# Altium footprint library 芯片.PcbLib: 193 footprints (part 12 of 13)
Each footprint in its own frame and in the unit in brackets; x right, y up, seen from the top. Pads: shape width x height; smd on the part's side, far side on the other; paste and mask are expansions set on the pad; w line width, h text height; cw(c..) or ccw(c..) is an arc to the next point about the centre after c.
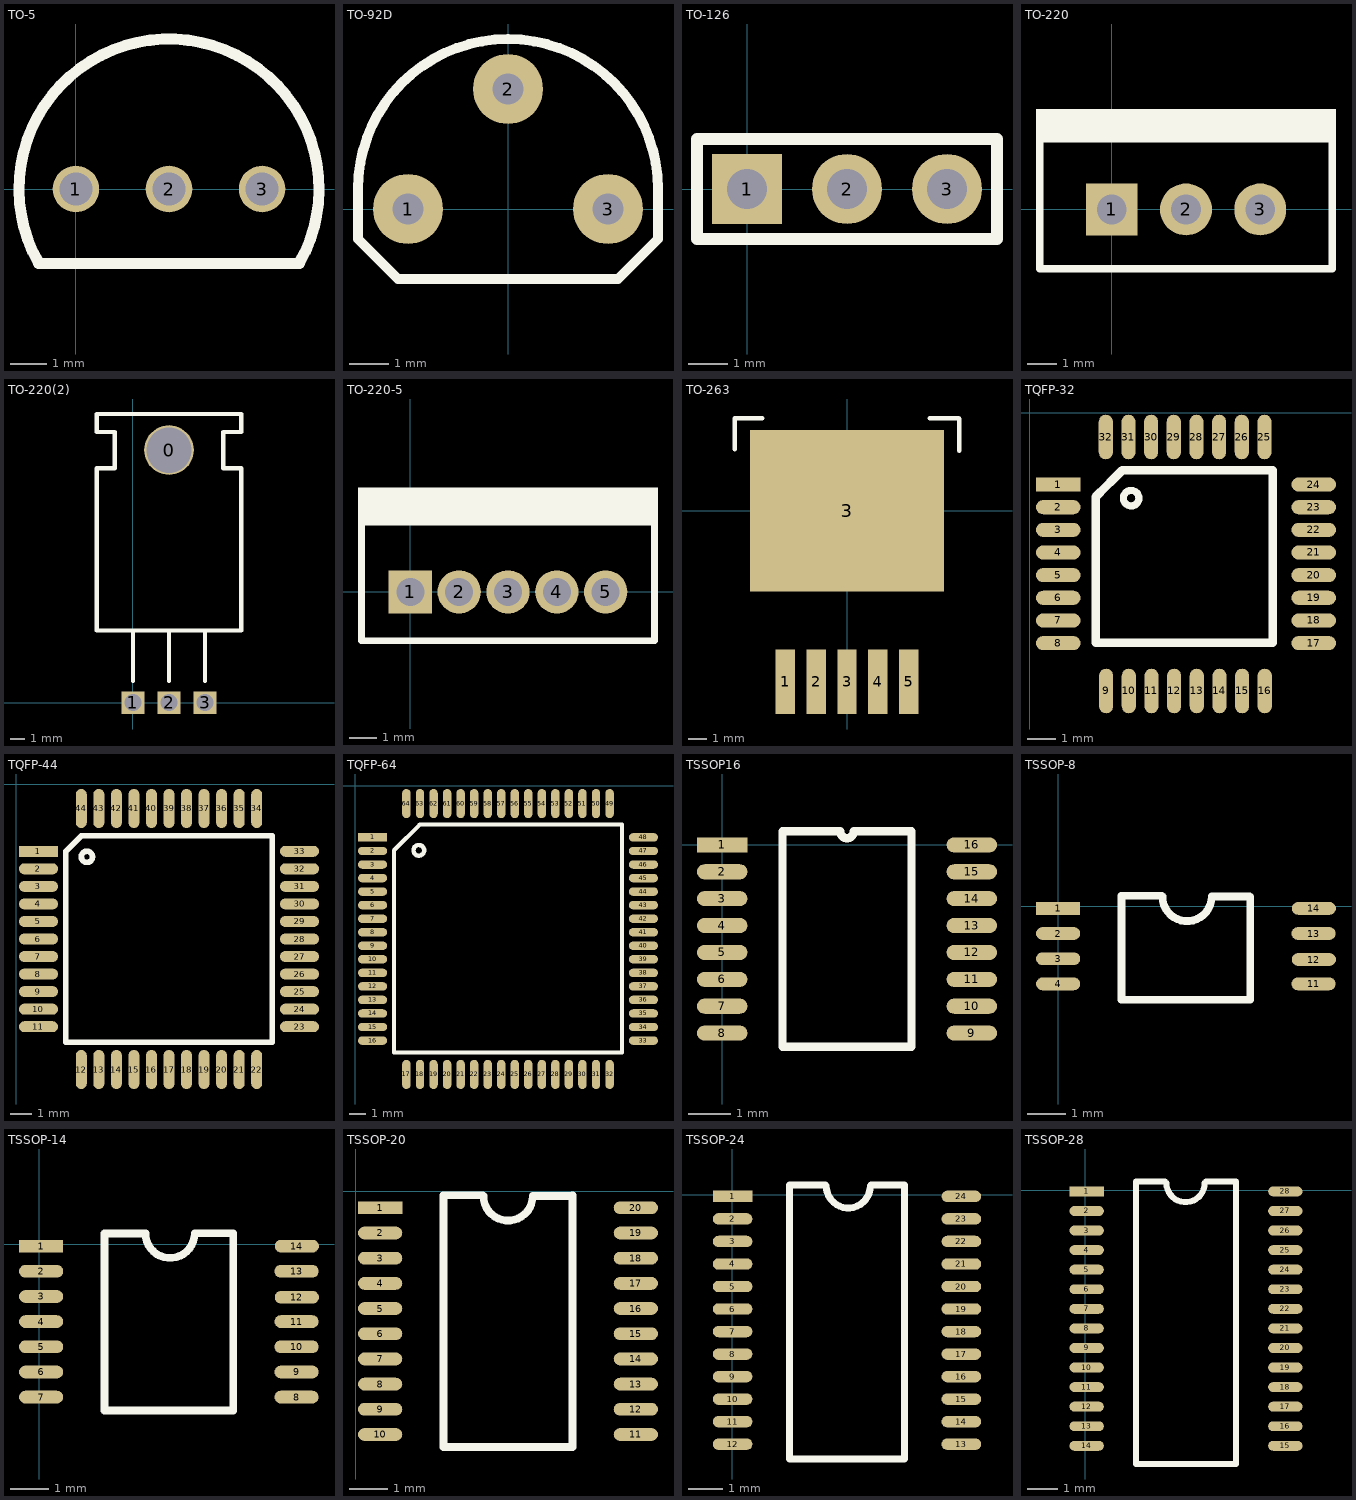
[diagram p11: the footprints below, top view; thin cyan lines are the x and y axes]

## TO-5 [mm]
pads (3):
  round 1.27 hole 0.9: 1(0,0) 2(2.54,0) 3(5.08,0)
Top Overlay:
  lines w0.305: -1.016,-2.032 cw(c2.54,0) 6.096,-2.032 -1.016,-2.032

## TO-92D [mil]
pads (3):
  round 70 hole 31.5: 1(-100,0) 2(0,120) 3(100,0)
Top Overlay:
  lines w10: -150,-30 -110,-70 110,-70 150,-30 150,20 ccw(c0,20) -150,20 -150,-30

## TO-126 [mil]
pads (3):
  rect 70x70 hole 40: 1(0,0)
  round 70 hole 40: 2(100,0) 3(200,0)
Top Overlay:
  lines w12: -50,-50 -50,50 250,50 250,-50 -50,-50

## TO-220 [mil]
pads (3):
  rect 70x70 hole 40: 1(0,0)
  round 70 hole 40: 2(100,0) 3(200,0)
Top Overlay:
  rectangle: -102,95 302,135
  lines w10: -97,-80 297,-80 297,95 -97,95 -97,-80

## TO-220(2) [mm]
pads (4):
  round 3.5 hole 3.2: 0(2.54,17.78)
  rect 1.6x1.6 hole 1.2: 1(0,0) 2(2.54,0) 3(5.08,0)
Top Overlay:
  lines w0.305: 0,1.524 0,5.08 ; 2.54,1.524 2.54,5.08 ; 5.08,1.524 5.08,5.08 ; -2.54,5.08 7.62,5.08 7.62,16.51 6.35,16.51 6.35,19.05 7.62,19.05 7.62,20.32 -2.54,20.32 -2.54,19.05 -1.27,19.05 -1.27,16.51 -2.54,16.51 -2.54,5.08

## TO-220-5 [mil]
pads (5):
  rect 62x62 hole 40: 1(0,0)
  round 62 hole 40: 2(70,0) 3(140,0) 4(210,0) 5(280,0)
Top Overlay:
  rectangle: -75,100 355,150
  lines w10: -70,-70 -70,100 350,100 350,-70 -70,-70

## TO-263 [mil]
pads (6):
  rect 42x140 smd: 1(-134,-370) 2(-67,-370) 3(0,-370) 4(67,-370) 5(134,-370)
  rect 420x350 smd: 3(0,0)
Top Overlay:
  lines w10: -243,134 -243,201 -184,201 ; 179,201 242,201 243,200 243,130

## TQFP-32 [mil]
pads (32):
  rect 62x19.68 smd: 1(40,-100)
  oval 62x19.68 smd: 2(40,-131.5) 3(40,-162.99) 4(40,-194.49) 5(40,-225.98) 6(40,-257.48) 7(40,-288.98) 8(40,-320.47) 17(395,-320.47) 18(395,-288.98) 19(395,-257.48) 20(395,-225.98) 21(395,-194.49) 22(395,-162.99) 23(395,-131.5) 24(395,-100)
  oval 19.68x62 smd: 9(106.51,-387) 10(138.01,-387) 11(169.5,-387) 12(201,-387) 13(232.5,-387) 14(263.99,-387) 15(295.49,-387) 16(326.98,-387) 25(326.52,-33.95) 26(295.02,-33.95) 27(263.53,-33.95) 28(232.03,-33.95) 29(200.53,-33.95) 30(169.04,-33.95) 31(137.54,-33.95) 32(106.05,-33.95)
Top Overlay:
  circle w10: c141.23,-119 r10.77
  lines w12: 93,-116 129,-80 338,-80 338,-320 92,-320 92,-117 98.99,-110.01

## TQFP-44 [mil]
pads (44):
  rect 70x19.68 smd: 1(40,-120)
  oval 70x19.68 smd: 2(40,-151.5) 3(40,-182.99) 4(40,-214.49) 5(40,-245.98) 6(40,-277.48) 7(40,-308.98) 8(40,-340.47) 9(40,-371.97) 10(40,-403.46) 11(40,-434.96) 23(508.5,-434.96) 24(508.5,-403.46) 25(508.5,-371.97) 26(508.5,-340.47) 27(508.5,-308.98) 28(508.5,-277.48) 29(508.5,-245.98) 30(508.5,-214.49) 31(508.5,-182.99) 32(508.5,-151.5) 33(508.5,-120)
  oval 19.68x70 smd: 12(116.77,-511.73) 13(148.27,-511.73) 14(179.76,-511.73) 15(211.26,-511.73) 16(242.76,-511.73) 17(274.25,-511.73) 18(305.75,-511.73) 19(337.24,-511.73) 20(368.74,-511.73) 21(400.24,-511.73) 22(431.73,-511.73) 34(431.73,-43.23) 35(400.24,-43.23) 36(368.74,-43.23) 37(337.24,-43.23) 38(305.75,-43.23) 39(274.25,-43.23) 40(242.76,-43.23) 41(211.26,-43.23) 42(179.76,-43.23) 43(148.27,-43.23) 44(116.77,-43.23)
Top Overlay:
  circle w10: c126.95,-130 r10.05
  lines w9.84: 89.21,-462.52 459.29,-462.52 459.29,-92.44
  lines w10: 89.21,-462.52 89.21,-120 116.77,-92.44 459.29,-92.44

## TQFP-64 [mm]
pads (64):
  rect 1.724x0.5 smd: 1(1.016,-3.044)
  oval 1.724x0.5 smd: 2(1.016,-3.844) 3(1.016,-4.644) 4(1.016,-5.444) 5(1.016,-6.244) 6(1.016,-7.044) 7(1.016,-7.844) 8(1.016,-8.644) 9(1.016,-9.444) 10(1.016,-10.244) 11(1.016,-11.044) 12(1.016,-11.844) 13(1.016,-12.644) 14(1.016,-13.444) 15(1.016,-14.244) 16(1.016,-15.044) 33(17.016,-15.044) 34(17.016,-14.244) 35(17.016,-13.444) 36(17.016,-12.644) 37(17.016,-11.844) 38(17.016,-11.044) 39(17.016,-10.244) 40(17.016,-9.444) 41(17.016,-8.644) 42(17.016,-7.844) 43(17.016,-7.044) 44(17.016,-6.244) 45(17.016,-5.444) 46(17.016,-4.644) 47(17.016,-3.844) 48(17.016,-3.044)
  oval 0.5x1.724 smd: 17(3.016,-17.044) 18(3.816,-17.044) 19(4.616,-17.044) 20(5.416,-17.044) 21(6.216,-17.044) 22(7.016,-17.044) 23(7.816,-17.044) 24(8.616,-17.044) 25(9.416,-17.044) 26(10.216,-17.044) 27(11.016,-17.044) 28(11.816,-17.044) 29(12.616,-17.044) 30(13.416,-17.044) 31(14.216,-17.044) 32(15.016,-17.044) 49(15.016,-1.044) 50(14.216,-1.044) 51(13.416,-1.044) 52(12.616,-1.044) 53(11.816,-1.044) 54(11.016,-1.044) 55(10.216,-1.044) 56(9.416,-1.044) 57(8.616,-1.044) 58(7.816,-1.044) 59(7.016,-1.044) 60(6.216,-1.044) 61(5.416,-1.044) 62(4.616,-1.044) 63(3.816,-1.044) 64(3.016,-1.044)
Top Overlay:
  circle w0.254: c3.748,-3.806 r0.316
  lines w0.254: 2.286,-15.744 2.286,-3.806 3.81,-2.282 15.748,-2.282 15.748,-15.744 2.286,-15.744

## TSSOP16 [mm]
pads (16):
  rect 1.2x0.36 smd: 1(0,0)
  oval 1.2x0.36 smd: 2(0,-0.64) 3(0,-1.28) 4(0,-1.92) 5(0,-2.56) 6(0,-3.2) 7(0,-3.84) 8(0,-4.48) 9(5.94,-4.48) 10(5.94,-3.84) 11(5.94,-3.2) 12(5.94,-2.56) 13(5.94,-1.92) 14(5.94,-1.28) 15(5.94,-0.64) 16(5.94,0)
Top Overlay:
  lines w0.2: 1.435,-4.8 1.435,0.32 2.81,0.32 ccw(c2.97,0.32) 3.13,0.32 4.505,0.32 4.505,-4.8 1.435,-4.8

## TSSOP-8 [mil]
pads (8):
  rect 45x12.99 smd: 1(-0.16,-2)
  oval 45x12.99 smd: 2(-0.16,-27.59) 3(-0.16,-53.18) 4(-0.16,-78.77) 11(259.69,-78.77) 12(260,-54) 13(259.69,-27.59) 14(260,-2)
Top Overlay:
  lines w7.87: 105.2,10.79 64.21,10.79 64.21,-94.88 195.31,-94.88 195.31,9.84 ; 106,10 ccw(c131,10) 156,10 194.52,10

## TSSOP-14 [mil]
pads (14):
  rect 45x12.99 smd: 1(1.84,-2)
  oval 45x12.99 smd: 2(1.84,-27.59) 3(1.84,-53.18) 4(1.84,-78.77) 5(1.84,-104.36) 6(1.84,-129.95) 7(1.84,-155.54) 8(261.69,-155.54) 9(261.69,-129.95) 10(261.69,-104.36) 11(261.69,-78.77) 12(262,-54) 13(261.69,-27.59) 14(262,-2)
Top Overlay:
  lines w7.87: 107.64,10.79 66.21,10.79 66.21,-169.29 197.31,-169.29 197.31,10.79 ; 108,11 ccw(c133,11) 158,11 197.11,11

## TSSOP-20 [mm]
pads (20):
  rect 1.143x0.33 smd: 1(0.635,-0.432)
  oval 1.143x0.33 smd: 2(0.635,-1.082) 3(0.635,-1.732) 4(0.635,-2.382) 5(0.635,-3.032) 6(0.635,-3.682) 7(0.635,-4.332) 8(0.635,-4.982) 9(0.635,-5.632) 10(0.635,-6.282) 11(7.235,-6.282) 12(7.235,-5.632) 13(7.235,-4.982) 14(7.235,-4.332) 15(7.235,-3.682) 16(7.235,-3.032) 17(7.235,-2.382) 18(7.235,-1.732) 19(7.235,-1.082) 20(7.235,-0.432)
Top Overlay:
  lines w0.2: 3.282,-0.107 2.27,-0.107 2.27,-6.607 5.6,-6.607 5.6,-0.107 ; 3.302,-0.127 ccw(c3.937,-0.127) 4.572,-0.127 5.58,-0.127

## TSSOP-24 [mm]
pads (24):
  rect 1.143x0.33 smd: 1(0.016,-0.046)
  oval 1.143x0.33 smd: 2(0.016,-0.696) 3(0.016,-1.346) 4(0.016,-1.996) 5(0.016,-2.646) 6(0.016,-3.296) 7(0.016,-3.946) 8(0.016,-4.596) 9(0.016,-5.246) 10(0.016,-5.896) 11(0.016,-6.546) 12(0.016,-7.196) 13(6.616,-7.196) 14(6.616,-6.546) 15(6.616,-5.896) 16(6.616,-5.246) 17(6.616,-4.596) 18(6.616,-3.946) 19(6.616,-3.296) 20(6.616,-2.646) 21(6.616,-1.996) 22(6.616,-1.346) 23(6.616,-0.696) 24(6.616,-0.046)
Top Overlay:
  lines w0.2: 2.692,0.279 1.651,0.279 1.651,-7.62 4.981,-7.62 4.981,0.279 4.013,0.279 ; 2.718,0.254 ccw(c3.353,0.254) 3.988,0.254

## TSSOP-28 [mm]
pads (28):
  rect 1.143x0.33 smd: 1(0.041,-0.046)
  oval 1.143x0.33 smd: 2(0.041,-0.696) 3(0.041,-1.346) 4(0.041,-1.996) 5(0.041,-2.646) 6(0.041,-3.296) 7(0.041,-3.946) 8(0.041,-4.596) 9(0.041,-5.246) 10(0.041,-5.896) 11(0.041,-6.546) 12(0.041,-7.196) 13(0.041,-7.846) 14(0.041,-8.496) 15(6.641,-8.496) 16(6.641,-7.846) 17(6.641,-7.196) 18(6.641,-6.546) 19(6.641,-5.896) 20(6.641,-5.246) 21(6.641,-4.596) 22(6.641,-3.946) 23(6.641,-3.296) 24(6.641,-2.646) 25(6.641,-1.996) 26(6.641,-1.346) 27(6.641,-0.696) 28(6.641,-0.046)
Top Overlay:
  lines w0.2: 2.642,0.279 1.676,0.279 1.676,-9.1 5.006,-9.1 5.006,0.279 4.013,0.279 ; 2.692,0.229 ccw(c3.327,0.229) 3.962,0.229